# Altium footprint library Diode_LED_Footprints.PcbLib: 5 footprints
Each footprint in its own frame and in the unit in brackets; x right, y up, seen from the top. Pads: shape width x height; smd on the part's side, far side on the other; paste and mask are expansions set on the pad; w line width, h text height; cw(c..) or ccw(c..) is an arc to the next point about the centre after c.
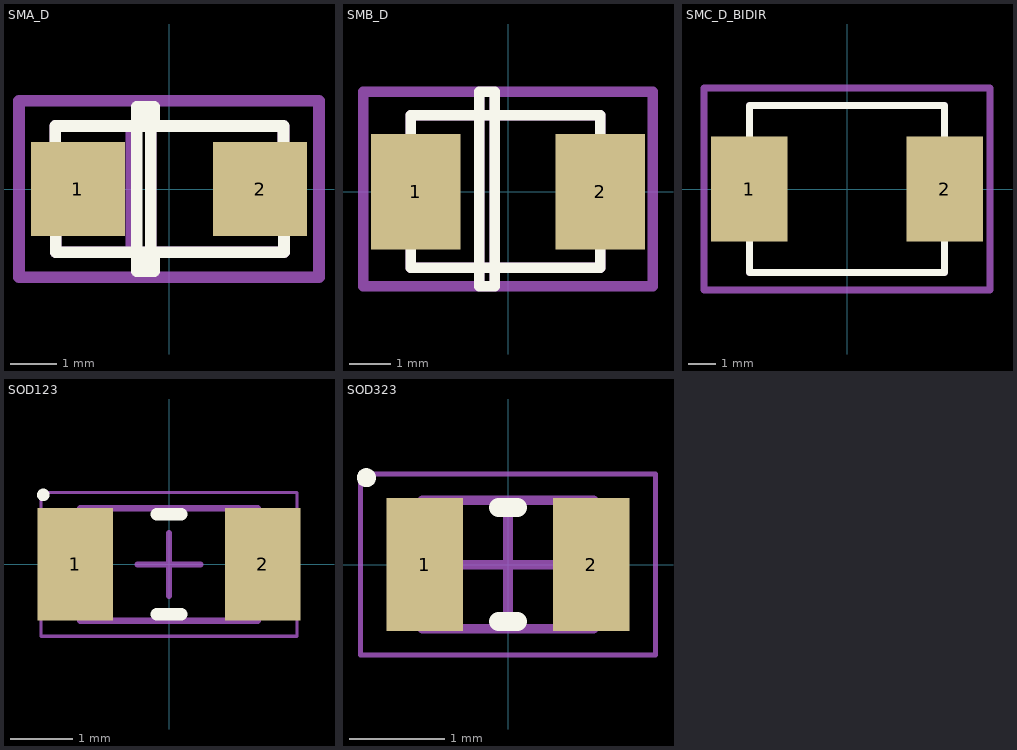
[diagram p0: the footprints below, top view; thin cyan lines are the x and y axes]

## SMA_D [mil] "SMA Diode"
pads (2):
  rect 80x80 smd: 1(-77.5,0) 2(77.5,0)
Top Overlay:
  lines w10: -96.68,40 -96.68,53.55 97.4,53.55 97.4,40 ; -96.36,-40 -96.36,-53.84 97.72,-53.84 97.72,-40 ; -27.5,-53.84 -27.5,52.91 ; -22.5,-70 -22.5,-55 ; -22.5,60 -22.5,70 ; -15.49,-53.84 -15.49,53.23 ; -27.5,-70 -27.5,-55 -12.5,-55 -12.5,-70 -27.5,-70 ; -27.5,55 -27.5,70 -12.5,70 -12.5,55 -27.5,55
Top Assembly:
  lines w10: -96.68,40 -96.68,53.55 97.4,53.55 97.4,40 ; -96.36,-40 -96.36,-53.84 97.72,-53.84 97.72,-40 ; -31.99,-53.84 -31.99,52.91 ; -15.49,-53.84 -15.49,53.23
Mechanical 16:
  lines w10: -127.5,-75 -127.5,75 127.5,75 127.5,-75 -127.5,-75
3D body "D_SMA.step": height 87.4, standoff 0, extent -95.93,-53.15 100.93,53.15

## SMB_D [mil]
pads (2):
  rect 85x110 smd: 1(-87.5,0) 2(87.5,0)
Top Overlay:
  lines w10: -92.5,-55 -92.5,-72.5 87.5,-72.5 87.5,-55 ; -92.5,55 -92.5,72.5 87.5,72.5 87.5,55 ; -27.5,-70 -27.5,71 ; -27.48,-69.82 -27.48,-89.82 -12.48,-89.82 -12.48,-69.82 ; -27.5,75 -27.5,95 -12.5,95 -12.5,75 ; -12.5,-70 -12.5,72.5
Top Assembly:
  lines w10: -92.5,-55 -92.5,-72.5 87.5,-72.5 87.5,-55 ; -92.5,55 -92.5,72.5 87.5,72.5 87.5,55 ; -27.5,71 -27.5,-70 -27.5,-90 -12.5,-90 -12.5,-70 -12.5,72 ; -27.46,75.07 -27.46,95.07 -12.46,95.07 -12.46,75.07
Mechanical 16:
  lines w10: -137.5,-90 137.5,-90 137.5,95 -137.5,95 -137.5,-90
3D body "D_SMB.step": height 84.65, standoff 0, extent -100.83,-69.88 107.83,69.88

## SMC_D_BIDIR [mil]
pads (2):
  rect 110x150 smd: 1(-140,0) 2(140,0)
Top Overlay:
  lines w10: -140,-120 -140,120 140,120 140,-120 -140,-120
Top Assembly:
  lines w10: -140,-120 -140,120 140,120 140,-120 -140,-120
Mechanical 16:
  lines w10: -205,-145 -205,145 205,145 205,-145 -205,-145
3D body "D_SMC.step": height 90.94, standoff 0, extent -157.48,-116.14 157.48,116.14

## SOD123 [mm] "Chip Diode, 2-Leads, SOD123"
height 3.86
pads (2):
  rect 1.2x1.8 smd: 1(-1.5,0) 2(1.5,0)
Top Overlay:
  circle w0.1: c-2.012,1.112 r0.05
  lines w0.2: -0.2,-0.8 0.2,-0.8 ; -0.2,0.8 0.2,0.8
Top Assembly:
  lines w0.1: -1.42,-0.9 1.42,-0.9 1.42,0.9 -1.42,0.9 -1.42,-0.9
Mechanical 15:
  lines w0.05: -2.05,-1.15 2.05,-1.15 2.05,1.15 -2.05,1.15 -2.05,-1.15
  lines w0.1: -0.5,0 0.5,0 ; 0,-0.5 0,0.5
3D body: height 3.86, standoff 0, extent 0.91,-0.9 1.42,0.9
3D body: height 3.86, standoff 0, extent -1.42,-0.9 -0.91,0.9
3D body: height 3.86, standoff 0, extent -0.91,-0.9 0.91,0.9
3D body "D_SOD-123.step": height 1.25, standoff 0, extent -1.9,-0.8 1.9,0.8

## SOD323 [mm] "Chip Diode, 2-Leads, Body 1.70x1.25mm, IPC Medium Density"
height 1
pads (2):
  rect 0.8x1.4 smd: 1(-0.875,0) 2(0.875,0)
Top Overlay:
  circle w0.1: c-1.487,0.912 r0.05
  lines w0.2: -0.1,-0.6 0.1,-0.6 ; -0.1,0.6 0.1,0.6
Mechanical 13:
  lines w0.1: -0.9,-0.675 0.9,-0.675 0.9,0.675 -0.9,0.675 -0.9,-0.675
Mechanical 15:
  lines w0.05: -1.55,-0.95 1.55,-0.95 1.55,0.95 -1.55,0.95 -1.55,-0.95
  lines w0.1: -0.5,0 0.5,0 ; 0,-0.5 0,0.5
3D body: height 1, standoff 0, extent 0.67,-0.675 0.9,0.675
3D body: height 1, standoff 0, extent -0.9,-0.675 -0.67,0.675
3D body: height 1, standoff 0, extent -0.67,-0.675 0.67,0.675